# Altium integrated library IR Discrete SCR.IntLib: 273 symbols (part 2 of 3)
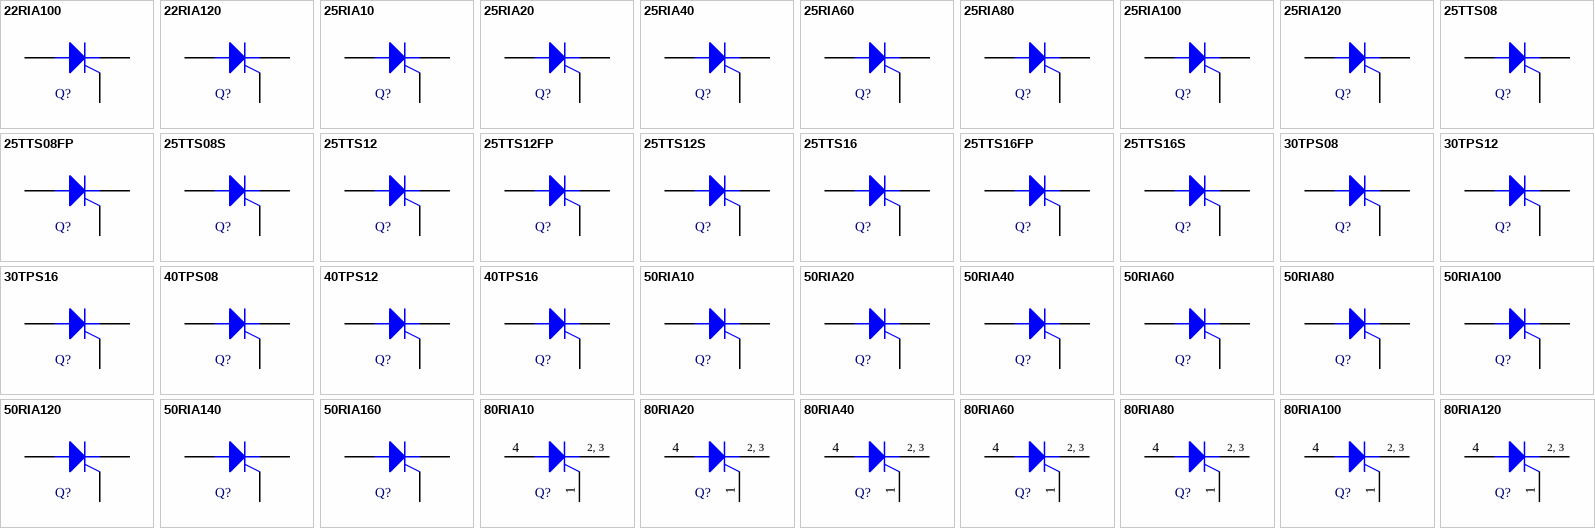
[diagram p7: symbols 22RIA100 to 80RIA120]

## 25TTS12
designator Q?
Phase Control SCR; Published: 8-Jun-2000; LatestRevisionDate: 17-Jul-2002; LatestRevisionNote: Re-released for DXP Platform.; DatasheetVersion: Dec-1998; PackageVersion: Mar-1999; PackageReference: TO-220AC_FP; Publisher: Altium Limited; PackageDescription: TO, Thru-Hole, Vertical, Heatsink Mounted; 3 In-Line Leads; Pitch 2.54 mm; ComponentLink1Description: Manufacturer Link; ComponentLink1URL: http://www.irf.com/; ComponentLink2Description: Datasheet; ComponentLink2URL: http://www.irf.com/product-info/datasheets/data/25tts.pdf
footprint TO-220AC_FP (TO, Thru-Hole, Vertical, Heatsink Mounted; 3 In-Line Leads; Pitch 2.54 mm)
pins: 1 K, 2 A, 3 G

## 25TTS12FP
designator Q?
Phase Control SCR TO-220 Fullpak; Published: 8-Jun-2000; LatestRevisionDate: 17-Jul-2002; LatestRevisionNote: Re-released for DXP Platform.; DatasheetVersion: Mar-1999; PackageVersion: Mar-1999; PackageReference: TO-220AC_FP; Publisher: Altium Limited; PackageDescription: TO, Thru-Hole, Vertical, Heatsink Mounted; 3 In-Line Leads; Pitch 2.54 mm; ComponentLink1Description: Manufacturer Link; ComponentLink1URL: http://www.irf.com/; ComponentLink2Description: Datasheet; ComponentLink2URL: http://www.irf.com/product-info/datasheets/data/25tts-fp.pdf
footprint TO-220AC_FP (TO, Thru-Hole, Vertical, Heatsink Mounted; 3 In-Line Leads; Pitch 2.54 mm)
pins: 1 K, 2 A, 3 G

## 25TTS12S
designator Q?
Surface Mountable Phase Control SCR; Note: Terminal 2 (anode) is the BASE; Published: 8-Jun-2000; LatestRevisionDate: 17-Jul-2002; LatestRevisionNote: Re-released for DXP Platform.; DatasheetVersion: Dec-1998; PackageReference: D2PAK; Publisher: Altium Limited; PackageDescription: D2-PAK/TO-263-AB; 3 Leads (1 Cropped); Body 15.5 (inc. leads) x 10.5 mm (LxW max); ComponentLink1Description: Manufacturer Link; ComponentLink1URL: http://www.irf.com/; ComponentLink2Description: Datasheet; ComponentLink2URL: http://www.irf.com/product-info/datasheets/data/25tts-s.pdf
footprint D2PAK (D2-PAK/TO-263-AB; 3 Leads (1 Cropped); Body 15.5 (inc. leads) x 10.5 mm (LxW max))
pins: 1 K, 2 A, 3 G

## 25TTS16
designator Q?
Phase Control SCR; Published: 8-Jun-2000; LatestRevisionDate: 17-Jul-2002; LatestRevisionNote: Re-released for DXP Platform.; DatasheetVersion: Dec-1998; PackageVersion: Mar-1999; PackageReference: TO-220AC_FP; Publisher: Altium Limited; PackageDescription: TO, Thru-Hole, Vertical, Heatsink Mounted; 3 In-Line Leads; Pitch 2.54 mm; ComponentLink1Description: Manufacturer Link; ComponentLink1URL: http://www.irf.com/; ComponentLink2Description: Datasheet; ComponentLink2URL: http://www.irf.com/product-info/datasheets/data/25tts.pdf
footprint TO-220AC_FP (TO, Thru-Hole, Vertical, Heatsink Mounted; 3 In-Line Leads; Pitch 2.54 mm)
pins: 1 K, 2 A, 3 G

## 25TTS16FP
designator Q?
Phase Control SCR TO-220 Fullpak; Published: 8-Jun-2000; LatestRevisionDate: 17-Jul-2002; LatestRevisionNote: Re-released for DXP Platform.; DatasheetVersion: Mar-1999; PackageVersion: Mar-1999; PackageReference: TO-220AC_FP; Publisher: Altium Limited; PackageDescription: TO, Thru-Hole, Vertical, Heatsink Mounted; 3 In-Line Leads; Pitch 2.54 mm; ComponentLink1Description: Manufacturer Link; ComponentLink1URL: http://www.irf.com/; ComponentLink2Description: Datasheet; ComponentLink2URL: http://www.irf.com/product-info/datasheets/data/25tts-fp.pdf
footprint TO-220AC_FP (TO, Thru-Hole, Vertical, Heatsink Mounted; 3 In-Line Leads; Pitch 2.54 mm)
pins: 1 K, 2 A, 3 G

## 25TTS16S
designator Q?
Surface Mountable Phase Control SCR; Note: Terminal 2 (anode) is the BASE; Published: 8-Jun-2000; LatestRevisionDate: 17-Jul-2002; LatestRevisionNote: Re-released for DXP Platform.; DatasheetVersion: Dec-1998; PackageReference: D2PAK; Publisher: Altium Limited; PackageDescription: D2-PAK/TO-263-AB; 3 Leads (1 Cropped); Body 15.5 (inc. leads) x 10.5 mm (LxW max); ComponentLink1Description: Manufacturer Link; ComponentLink1URL: http://www.irf.com/; ComponentLink2Description: Datasheet; ComponentLink2URL: http://www.irf.com/product-info/datasheets/data/25tts-s.pdf
footprint D2PAK (D2-PAK/TO-263-AB; 3 Leads (1 Cropped); Body 15.5 (inc. leads) x 10.5 mm (LxW max))
pins: 1 K, 2 A, 3 G

## 30TPS08
designator Q?
Phase Control SCR; Published: 8-Jun-2000; LatestRevisionDate: 17-Jul-2002; LatestRevisionNote: Re-released for DXP Platform.; DatasheetVersion: Apr-1997; PackageVersion: Aug-1997; PackageReference: TO-247AC; Publisher: Altium Limited; PackageDescription: SIP with Mounting Hole; 3 Leads; Body 20 x 15.6 x 5 mm (typ); Pitch 5.45 mm; Code_JEDEC: TO-247-AC; ComponentLink1Description: Manufacturer Link; ComponentLink1URL: http://www.irf.com/; ComponentLink2Description: Datasheet; ComponentLink2URL: http://www.irf.com/product-info/datasheets/data/30tps16.pdf
footprint TO-247AC (SIP with Mounting Hole; 3 Leads; Body 20 x 15.6 x 5 mm (typ); Pitch 5.45 mm)
pins: 1 K, 2 A, 3 G

## 30TPS12
designator Q?
Phase Control SCR; Published: 8-Jun-2000; LatestRevisionDate: 17-Jul-2002; LatestRevisionNote: Re-released for DXP Platform.; DatasheetVersion: Apr-1997; PackageVersion: Aug-1997; PackageReference: TO-247AC; Publisher: Altium Limited; PackageDescription: SIP with Mounting Hole; 3 Leads; Body 20 x 15.6 x 5 mm (typ); Pitch 5.45 mm; Code_JEDEC: TO-247-AC; ComponentLink1Description: Manufacturer Link; ComponentLink1URL: http://www.irf.com/; ComponentLink2Description: Datasheet; ComponentLink2URL: http://www.irf.com/product-info/datasheets/data/30tps16.pdf
footprint TO-247AC (SIP with Mounting Hole; 3 Leads; Body 20 x 15.6 x 5 mm (typ); Pitch 5.45 mm)
pins: 1 K, 2 A, 3 G

## 30TPS16
designator Q?
Phase Control SCR; Published: 8-Jun-2000; LatestRevisionDate: 17-Jul-2002; LatestRevisionNote: Re-released for DXP Platform.; DatasheetVersion: Apr-1997; PackageVersion: Aug-1997; PackageReference: TO-247AC; Publisher: Altium Limited; PackageDescription: SIP with Mounting Hole; 3 Leads; Body 20 x 15.6 x 5 mm (typ); Pitch 5.45 mm; Code_JEDEC: TO-247-AC; ComponentLink1Description: Manufacturer Link; ComponentLink1URL: http://www.irf.com/; ComponentLink2Description: Datasheet; ComponentLink2URL: http://www.irf.com/product-info/datasheets/data/30tps16.pdf
footprint TO-247AC (SIP with Mounting Hole; 3 Leads; Body 20 x 15.6 x 5 mm (typ); Pitch 5.45 mm)
pins: 1 K, 2 A, 3 G

## 40TPS08
designator Q?
Phase Control SCR; Published: 8-Jun-2000; LatestRevisionDate: 17-Jul-2002; LatestRevisionNote: Re-released for DXP Platform.; DatasheetVersion: Aug-1998; PackageVersion: Aug-1997; PackageReference: TO-247AC; Publisher: Altium Limited; PackageDescription: SIP with Mounting Hole; 3 Leads; Body 20 x 15.6 x 5 mm (typ); Pitch 5.45 mm; Code_JEDEC: TO-247-AC; ComponentLink1Description: Manufacturer Link; ComponentLink1URL: http://www.irf.com/; ComponentLink2Description: Datasheet; ComponentLink2URL: http://www.irf.com/product-info/datasheets/data/40tps.pdf
footprint TO-247AC (SIP with Mounting Hole; 3 Leads; Body 20 x 15.6 x 5 mm (typ); Pitch 5.45 mm)
pins: 1 K, 2 A, 3 G

## 40TPS12
designator Q?
Phase Control SCR; Published: 8-Jun-2000; LatestRevisionDate: 17-Jul-2002; LatestRevisionNote: Re-released for DXP Platform.; DatasheetVersion: Aug-1998; PackageVersion: Aug-1997; PackageReference: TO-247AC; Publisher: Altium Limited; PackageDescription: SIP with Mounting Hole; 3 Leads; Body 20 x 15.6 x 5 mm (typ); Pitch 5.45 mm; Code_JEDEC: TO-247-AC; ComponentLink1Description: Manufacturer Link; ComponentLink1URL: http://www.irf.com/; ComponentLink2Description: Datasheet; ComponentLink2URL: http://www.irf.com/product-info/datasheets/data/40tps.pdf
footprint TO-247AC (SIP with Mounting Hole; 3 Leads; Body 20 x 15.6 x 5 mm (typ); Pitch 5.45 mm)
pins: 1 K, 2 A, 3 G

## 40TPS16
designator Q?
Phase Control SCR; Published: 8-Jun-2000; LatestRevisionDate: 17-Jul-2002; LatestRevisionNote: Re-released for DXP Platform.; DatasheetVersion: Aug-1998; PackageVersion: Aug-1997; PackageReference: TO-247AC; Publisher: Altium Limited; PackageDescription: SIP with Mounting Hole; 3 Leads; Body 20 x 15.6 x 5 mm (typ); Pitch 5.45 mm; Code_JEDEC: TO-247-AC; ComponentLink1Description: Manufacturer Link; ComponentLink1URL: http://www.irf.com/; ComponentLink2Description: Datasheet; ComponentLink2URL: http://www.irf.com/product-info/datasheets/data/40tps.pdf
footprint TO-247AC (SIP with Mounting Hole; 3 Leads; Body 20 x 15.6 x 5 mm (typ); Pitch 5.45 mm)
pins: 1 K, 2 A, 3 G

## 50RIA10
designator Q?
Medium Power Thyristor; Note: No PCB Footprint Available; Published: 8-Jun-2000; LatestRevisionDate: 17-Jul-2002; LatestRevisionNote: Re-released for DXP Platform.; DatasheetVersion: I2401; PackageReference: TO-208AC; Publisher: Altium Limited; ComponentLink1Description: Manufacturer Link; ComponentLink1URL: http://www.irf.com/; ComponentLink2Description: Datasheet; ComponentLink2URL: http://www.irf.com/product-info/datasheets/data/50ria.pdf
simulation model 50RIA10 (SUBCKT)
pins: 1 G, 2 K, 3 A

## 50RIA20
designator Q?
Medium Power Thyristor; Note: No PCB Footprint Available; Published: 8-Jun-2000; LatestRevisionDate: 17-Jul-2002; LatestRevisionNote: Re-released for DXP Platform.; DatasheetVersion: I2401; PackageReference: TO-208AC; Publisher: Altium Limited; ComponentLink1Description: Manufacturer Link; ComponentLink1URL: http://www.irf.com/; ComponentLink2Description: Datasheet; ComponentLink2URL: http://www.irf.com/product-info/datasheets/data/50ria.pdf
simulation model 50RIA20 (SUBCKT)
pins: 1 G, 2 K, 3 A

## 50RIA40
designator Q?
Medium Power Thyristor; Note: No PCB Footprint Available; Published: 8-Jun-2000; LatestRevisionDate: 17-Jul-2002; LatestRevisionNote: Re-released for DXP Platform.; DatasheetVersion: I2401; PackageReference: TO-208AC; Publisher: Altium Limited; ComponentLink1Description: Manufacturer Link; ComponentLink1URL: http://www.irf.com/; ComponentLink2Description: Datasheet; ComponentLink2URL: http://www.irf.com/product-info/datasheets/data/50ria.pdf
simulation model 50RIA40 (SUBCKT)
pins: 1 G, 2 K, 3 A

## 50RIA60
designator Q?
Medium Power Thyristor; Note: No PCB Footprint Available; Published: 8-Jun-2000; LatestRevisionDate: 17-Jul-2002; LatestRevisionNote: Re-released for DXP Platform.; DatasheetVersion: I2401; PackageReference: TO-208AC; Publisher: Altium Limited; ComponentLink1Description: Manufacturer Link; ComponentLink1URL: http://www.irf.com/; ComponentLink2Description: Datasheet; ComponentLink2URL: http://www.irf.com/product-info/datasheets/data/50ria.pdf
simulation model 50RIA60 (SUBCKT)
pins: 1 G, 2 K, 3 A

## 50RIA80
designator Q?
Medium Power Thyristor; Note: No PCB Footprint Available; Published: 8-Jun-2000; LatestRevisionDate: 17-Jul-2002; LatestRevisionNote: Re-released for DXP Platform.; DatasheetVersion: I2401; PackageReference: TO-208AC; Publisher: Altium Limited; ComponentLink1Description: Manufacturer Link; ComponentLink1URL: http://www.irf.com/; ComponentLink2Description: Datasheet; ComponentLink2URL: http://www.irf.com/product-info/datasheets/data/50ria.pdf
simulation model 50RIA80 (SUBCKT)
pins: 1 G, 2 K, 3 A

## 50RIA100
designator Q?
Medium Power Thyristor; Note: No PCB Footprint Available; Published: 8-Jun-2000; LatestRevisionDate: 17-Jul-2002; LatestRevisionNote: Re-released for DXP Platform.; DatasheetVersion: I2401; PackageReference: TO-208AC; Publisher: Altium Limited; ComponentLink1Description: Manufacturer Link; ComponentLink1URL: http://www.irf.com/; ComponentLink2Description: Datasheet; ComponentLink2URL: http://www.irf.com/product-info/datasheets/data/50ria.pdf
simulation model 50RIA100 (SUBCKT)
pins: 1 G, 2 K, 3 A

## 50RIA120
designator Q?
Medium Power Thyristor; Note: No PCB Footprint Available; Published: 8-Jun-2000; LatestRevisionDate: 17-Jul-2002; LatestRevisionNote: Re-released for DXP Platform.; DatasheetVersion: I2401; PackageReference: TO-208AC; Publisher: Altium Limited; ComponentLink1Description: Manufacturer Link; ComponentLink1URL: http://www.irf.com/; ComponentLink2Description: Datasheet; ComponentLink2URL: http://www.irf.com/product-info/datasheets/data/50ria.pdf
simulation model 50RIA120 (SUBCKT)
pins: 1 G, 2 K, 3 A

## 50RIA140
designator Q?
Medium Power Thyristor; Note: No PCB Footprint Available; Published: 8-Jun-2000; LatestRevisionDate: 17-Jul-2002; LatestRevisionNote: Re-released for DXP Platform.; DatasheetVersion: I2401; PackageReference: TO-208AC; Publisher: Altium Limited; ComponentLink1Description: Manufacturer Link; ComponentLink1URL: http://www.irf.com/; ComponentLink2Description: Datasheet; ComponentLink2URL: http://www.irf.com/product-info/datasheets/data/50ria.pdf
simulation model 50RIA140 (SUBCKT)
pins: 1 G, 2 K, 3 A

## 50RIA160
designator Q?
Medium Power Thyristor; Note: No PCB Footprint Available; Published: 8-Jun-2000; LatestRevisionDate: 17-Jul-2002; LatestRevisionNote: Re-released for DXP Platform.; DatasheetVersion: I2401; PackageReference: TO-208AC; Publisher: Altium Limited; ComponentLink1Description: Manufacturer Link; ComponentLink1URL: http://www.irf.com/; ComponentLink2Description: Datasheet; ComponentLink2URL: http://www.irf.com/product-info/datasheets/data/50ria.pdf
simulation model 50RIA160 (SUBCKT)
pins: 1 G, 2 K, 3 A

## 80RIA10
designator Q?
Phase Control Thyristor; Note: No PCB Footprint Available; Published: 8-Jun-2000; LatestRevisionDate: 17-Jul-2002; LatestRevisionNote: Re-released for DXP Platform.; DatasheetVersion: Dec-1989; PackageReference: TO-209AC; Publisher: Altium Limited; ComponentLink1Description: Manufacturer Link; ComponentLink1URL: http://www.irf.com/
simulation model 80RIA10 (SUBCKT)
pins: 1 G, 2 K, 3 K, 4 A
text: 2, 3

## 80RIA20
designator Q?
Phase Control Thyristor; Note: No PCB Footprint Available; Published: 8-Jun-2000; LatestRevisionDate: 17-Jul-2002; LatestRevisionNote: Re-released for DXP Platform.; DatasheetVersion: Dec-1989; PackageReference: TO-209AC; Publisher: Altium Limited; ComponentLink1Description: Manufacturer Link; ComponentLink1URL: http://www.irf.com/
simulation model 80RIA20 (SUBCKT)
pins: 1 G, 2 K, 3 K, 4 A
text: 2, 3

## 80RIA40
designator Q?
Phase Control Thyristor; Note: No PCB Footprint Available; Published: 8-Jun-2000; LatestRevisionDate: 17-Jul-2002; LatestRevisionNote: Re-released for DXP Platform.; PackageReference: TO-209AC; Publisher: Altium Limited; ComponentLink1Description: Manufacturer Link; ComponentLink1URL: http://www.irf.com/; ComponentLink2Description: Datasheet; ComponentLink2URL: http://www.irf.com/product-info/datasheets/data/80ria.pdf
simulation model 80RIA40 (SUBCKT)
pins: 1 G, 2 K, 3 K, 4 A
text: 2, 3

## 80RIA60
designator Q?
Phase Control Thyristor; Note: No PCB Footprint Available; Published: 8-Jun-2000; LatestRevisionDate: 17-Jul-2002; LatestRevisionNote: Re-released for DXP Platform.; DatasheetVersion: Dec-1989; PackageReference: TO-209AC; Publisher: Altium Limited; ComponentLink1Description: Manufacturer Link; ComponentLink1URL: http://www.irf.com/
simulation model 80RIA60 (SUBCKT)
pins: 1 G, 2 K, 3 K, 4 A
text: 2, 3

## 80RIA80
designator Q?
Phase Control Thyristor; Note: No PCB Footprint Available; Published: 8-Jun-2000; LatestRevisionDate: 17-Jul-2002; LatestRevisionNote: Re-released for DXP Platform.; PackageReference: TO-209AC; Publisher: Altium Limited; ComponentLink1Description: Manufacturer Link; ComponentLink1URL: http://www.irf.com/; ComponentLink2Description: Datasheet; ComponentLink2URL: http://www.irf.com/product-info/datasheets/data/80ria.pdf
simulation model 80RIA80 (SUBCKT)
pins: 1 G, 2 K, 3 K, 4 A
text: 2, 3

## 80RIA100
designator Q?
Phase Control Thyristor; Note: No PCB Footprint Available; Published: 8-Jun-2000; LatestRevisionDate: 17-Jul-2002; LatestRevisionNote: Re-released for DXP Platform.; DatasheetVersion: Dec-1989; PackageReference: TO-209AC; Publisher: Altium Limited; ComponentLink1Description: Manufacturer Link; ComponentLink1URL: http://www.irf.com/
simulation model 80RIA100 (SUBCKT)
pins: 1 G, 2 K, 3 K, 4 A
text: 2, 3

## 80RIA120
designator Q?
Phase Control Thyristor; Note: No PCB Footprint Available; Published: 8-Jun-2000; LatestRevisionDate: 17-Jul-2002; LatestRevisionNote: Re-released for DXP Platform.; PackageReference: TO-209AC; Publisher: Altium Limited; ComponentLink1Description: Manufacturer Link; ComponentLink1URL: http://www.irf.com/; ComponentLink2Description: Datasheet; ComponentLink2URL: http://www.irf.com/product-info/datasheets/data/80ria.pdf
simulation model 80RIA120 (SUBCKT)
pins: 1 G, 2 K, 3 K, 4 A
text: 2, 3

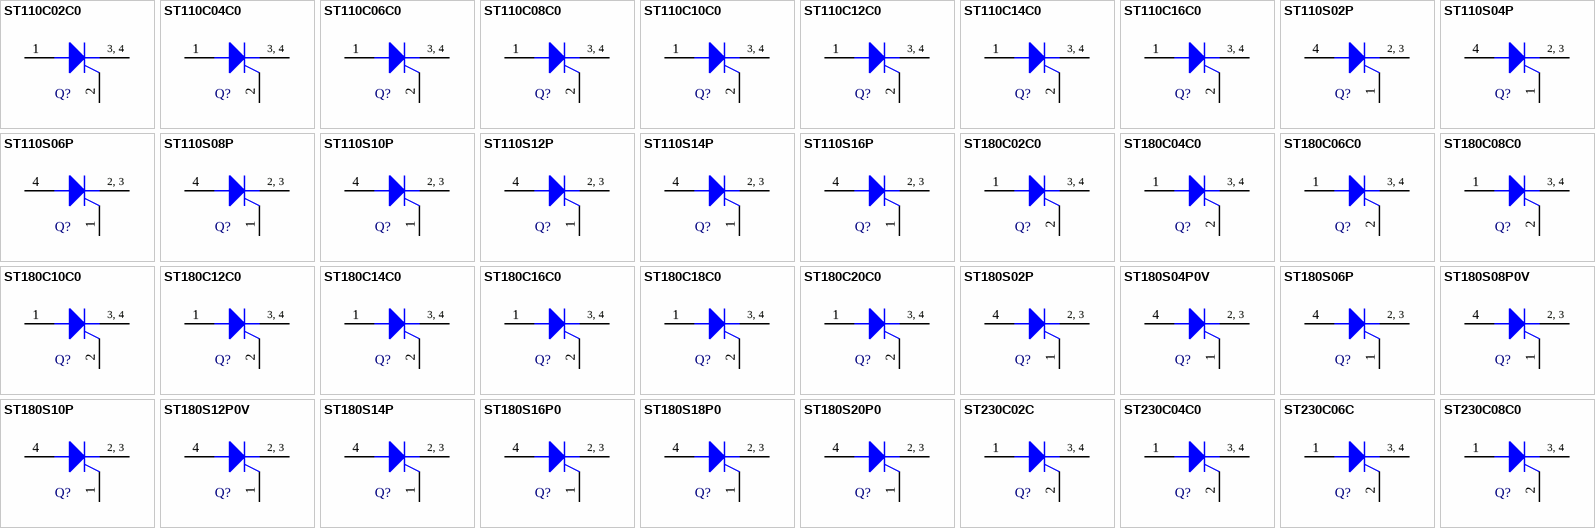
[diagram p3: symbols ST110C02C0 to ST230C08C0]

## ST110C02C0
designator Q?
Phase Control Thyristor; Note: No PCB Footprint Available; Published: 8-Jun-2000; LatestRevisionDate: 17-Jul-2002; LatestRevisionNote: Re-released for DXP Platform.; DatasheetVersion: Dec-1989; PackageReference: TO-200AB; Publisher: Altium Limited; ComponentLink1Description: Manufacturer Link; ComponentLink1URL: http://www.irf.com/
simulation model ST110C02C0 (SUBCKT)
pins: 1 A, 2 G, 3 K, 4 K
text: 3, 4

## ST110C04C0
designator Q?
Phase Control Thyristor; Note: No PCB Footprint Available; Published: 8-Jun-2000; LatestRevisionDate: 17-Jul-2002; LatestRevisionNote: Re-released for DXP Platform.; DatasheetVersion: Dec-1989; PackageReference: TO-200AB; Publisher: Altium Limited; ComponentLink1Description: Manufacturer Link; ComponentLink1URL: http://www.irf.com/
simulation model ST110C04C0 (SUBCKT)
pins: 1 A, 2 G, 3 K, 4 K
text: 3, 4

## ST110C06C0
designator Q?
Phase Control Thyristor; Note: No PCB Footprint Available; Published: 8-Jun-2000; LatestRevisionDate: 17-Jul-2002; LatestRevisionNote: Re-released for DXP Platform.; DatasheetVersion: Dec-1989; PackageReference: TO-200AB; Publisher: Altium Limited; ComponentLink1Description: Manufacturer Link; ComponentLink1URL: http://www.irf.com/
simulation model ST110C06C0 (SUBCKT)
pins: 1 A, 2 G, 3 K, 4 K
text: 3, 4

## ST110C08C0
designator Q?
Phase Control Thyristor; Note: No PCB Footprint Available; Published: 8-Jun-2000; LatestRevisionDate: 17-Jul-2002; LatestRevisionNote: Re-released for DXP Platform.; DatasheetVersion: Dec-1989; PackageReference: TO-200AB; Publisher: Altium Limited; ComponentLink1Description: Manufacturer Link; ComponentLink1URL: http://www.irf.com/
simulation model ST110C08C0 (SUBCKT)
pins: 1 A, 2 G, 3 K, 4 K
text: 3, 4

## ST110C10C0
designator Q?
Phase Control Thyristor; Note: No PCB Footprint Available; Published: 8-Jun-2000; LatestRevisionDate: 17-Jul-2002; LatestRevisionNote: Re-released for DXP Platform.; DatasheetVersion: Dec-1989; PackageReference: TO-200AB; Publisher: Altium Limited; ComponentLink1Description: Manufacturer Link; ComponentLink1URL: http://www.irf.com/
simulation model ST110C10C0 (SUBCKT)
pins: 1 A, 2 G, 3 K, 4 K
text: 3, 4

## ST110C12C0
designator Q?
Phase Control Thyristor; Note: No PCB Footprint Available; Published: 8-Jun-2000; LatestRevisionDate: 17-Jul-2002; LatestRevisionNote: Re-released for DXP Platform.; DatasheetVersion: Dec-1989; PackageReference: TO-200AB; Publisher: Altium Limited; ComponentLink1Description: Manufacturer Link; ComponentLink1URL: http://www.irf.com/
simulation model ST110C12C0 (SUBCKT)
pins: 1 A, 2 G, 3 K, 4 K
text: 3, 4

## ST110C14C0
designator Q?
Phase Control Thyristor; Note: No PCB Footprint Available; Published: 8-Jun-2000; LatestRevisionDate: 17-Jul-2002; LatestRevisionNote: Re-released for DXP Platform.; DatasheetVersion: Dec-1989; PackageReference: TO-200AB; Publisher: Altium Limited; ComponentLink1Description: Manufacturer Link; ComponentLink1URL: http://www.irf.com/
simulation model ST110C14C0 (SUBCKT)
pins: 1 A, 2 G, 3 K, 4 K
text: 3, 4

## ST110C16C0
designator Q?
Phase Control Thyristor; Note: No PCB Footprint Available; Published: 8-Jun-2000; LatestRevisionDate: 17-Jul-2002; LatestRevisionNote: Re-released for DXP Platform.; DatasheetVersion: Dec-1989; PackageReference: TO-200AB; Publisher: Altium Limited; ComponentLink1Description: Manufacturer Link; ComponentLink1URL: http://www.irf.com/
simulation model ST110C16C0 (SUBCKT)
pins: 1 A, 2 G, 3 K, 4 K
text: 3, 4

## ST110S02P
designator Q?
Phase Control Thyristor; Note: No PCB Footprint Available; Published: 8-Jun-2000; LatestRevisionDate: 17-Jul-2002; LatestRevisionNote: Re-released for DXP Platform.; DatasheetVersion: Dec-1989; PackageReference: TO-209AC; Publisher: Altium Limited; ComponentLink1Description: Manufacturer Link; ComponentLink1URL: http://www.irf.com/
simulation model ST110S02P (SUBCKT)
pins: 1 G, 2 K, 3 K, 4 A
text: 2, 3

## ST110S04P
designator Q?
Phase Control Thyristor; Note: No PCB Footprint Available; Published: 8-Jun-2000; LatestRevisionDate: 17-Jul-2002; LatestRevisionNote: Re-released for DXP Platform.; DatasheetVersion: Jan-1994; PackageReference: TO-209AC; Publisher: Altium Limited; ComponentLink1Description: Manufacturer Link; ComponentLink1URL: http://www.irf.com/; ComponentLink2Description: Datasheet; ComponentLink2URL: http://www.irf.com/product-info/datasheets/data/st110s.pdf
simulation model ST110S04P (SUBCKT)
pins: 1 G, 2 K, 3 K, 4 A
text: 2, 3

## ST110S06P
designator Q?
Phase Control Thyristor; Note: No PCB Footprint Available; Published: 8-Jun-2000; LatestRevisionDate: 17-Jul-2002; LatestRevisionNote: Re-released for DXP Platform.; DatasheetVersion: Dec-1989; PackageReference: TO-209AC; Publisher: Altium Limited; ComponentLink1Description: Manufacturer Link; ComponentLink1URL: http://www.irf.com/
simulation model ST110S06P (SUBCKT)
pins: 1 G, 2 K, 3 K, 4 A
text: 2, 3

## ST110S08P
designator Q?
Phase Control Thyristor; Note: No PCB Footprint Available; Published: 8-Jun-2000; LatestRevisionDate: 17-Jul-2002; LatestRevisionNote: Re-released for DXP Platform.; DatasheetVersion: Jan-1994; PackageReference: TO-209AC; Publisher: Altium Limited; ComponentLink1Description: Manufacturer Link; ComponentLink1URL: http://www.irf.com/; ComponentLink2Description: Datasheet; ComponentLink2URL: http://www.irf.com/product-info/datasheets/data/st110s.pdf
simulation model ST110S08P (SUBCKT)
pins: 1 G, 2 K, 3 K, 4 A
text: 2, 3

## ST110S10P
designator Q?
Phase Control Thyristor; Note: No PCB Footprint Available; Published: 8-Jun-2000; LatestRevisionDate: 17-Jul-2002; LatestRevisionNote: Re-released for DXP Platform.; DatasheetVersion: Dec-1989; PackageReference: TO-209AC; Publisher: Altium Limited; ComponentLink1Description: Manufacturer Link; ComponentLink1URL: http://www.irf.com/
simulation model ST110S10P0V (SUBCKT)
pins: 1 G, 2 K, 3 K, 4 A
text: 2, 3

## ST110S12P
designator Q?
Phase Control Thyristor; Note: No PCB Footprint Available; Published: 8-Jun-2000; LatestRevisionDate: 17-Jul-2002; LatestRevisionNote: Re-released for DXP Platform.; DatasheetVersion: Jan-1994; PackageReference: TO-209AC; Publisher: Altium Limited; ComponentLink1Description: Manufacturer Link; ComponentLink1URL: http://www.irf.com/; ComponentLink2Description: Datasheet; ComponentLink2URL: http://www.irf.com/product-info/datasheets/data/st110s.pdf
simulation model ST110S12P (SUBCKT)
pins: 1 G, 2 K, 3 K, 4 A
text: 2, 3

## ST110S14P
designator Q?
Phase Control Thyristor; Note: No PCB Footprint Available; Published: 8-Jun-2000; LatestRevisionDate: 17-Jul-2002; LatestRevisionNote: Re-released for DXP Platform.; DatasheetVersion: Jan-1994; PackageReference: TO-209AC; Publisher: Altium Limited; ComponentLink1Description: Manufacturer Link; ComponentLink1URL: http://www.irf.com/; ComponentLink2Description: Datasheet; ComponentLink2URL: http://www.irf.com/product-info/datasheets/data/st110s.pdf
simulation model ST110S14P (SUBCKT)
pins: 1 G, 2 K, 3 K, 4 A
text: 2, 3

## ST110S16P
designator Q?
Phase Control Thyristor; Note: No PCB Footprint Available; Published: 8-Jun-2000; LatestRevisionDate: 17-Jul-2002; LatestRevisionNote: Re-released for DXP Platform.; DatasheetVersion: Jan-1994; PackageReference: TO-209AC; Publisher: Altium Limited; ComponentLink1Description: Manufacturer Link; ComponentLink1URL: http://www.irf.com/; ComponentLink2Description: Datasheet; ComponentLink2URL: http://www.irf.com/product-info/datasheets/data/st110s.pdf
simulation model ST110S16P (SUBCKT)
pins: 1 G, 2 K, 3 K, 4 A
text: 2, 3

## ST180C02C0
designator Q?
Phase Control Thyristor; Note: No PCB Footprint Available; Published: 8-Jun-2000; LatestRevisionDate: 17-Jul-2002; LatestRevisionNote: Re-released for DXP Platform.; DatasheetVersion: Dec-1989; PackageReference: TO-200AB; Publisher: Altium Limited; ComponentLink1Description: Manufacturer Link; ComponentLink1URL: http://www.irf.com/
simulation model ST180C02C0 (SUBCKT)
pins: 1 A, 2 G, 3 K, 4 K
text: 3, 4

## ST180C04C0
designator Q?
Phase Control Thyristor; Note: No PCB Footprint Available; Published: 8-Jun-2000; LatestRevisionDate: 17-Jul-2002; LatestRevisionNote: Re-released for DXP Platform.; DatasheetVersion: Jan-1994; PackageReference: TO-200AB; Publisher: Altium Limited; ComponentLink1Description: Manufacturer Link; ComponentLink1URL: http://www.irf.com/; ComponentLink2Description: Datasheet; ComponentLink2URL: http://www.irf.com/product-info/datasheets/data/st180c-c.pdf
simulation model ST180C04C0 (SUBCKT)
pins: 1 A, 2 G, 3 K, 4 K
text: 3, 4

## ST180C06C0
designator Q?
Phase Control Thyristor; Note: No PCB Footprint Available; Published: 8-Jun-2000; LatestRevisionDate: 17-Jul-2002; LatestRevisionNote: Re-released for DXP Platform.; DatasheetVersion: Dec-1989; PackageReference: TO-200AB; Publisher: Altium Limited; ComponentLink1Description: Manufacturer Link; ComponentLink1URL: http://www.irf.com/
simulation model ST180C06C0 (SUBCKT)
pins: 1 A, 2 G, 3 K, 4 K
text: 3, 4

## ST180C08C0
designator Q?
Phase Control Thyristor; Note: No PCB Footprint Available; Published: 8-Jun-2000; LatestRevisionDate: 17-Jul-2002; LatestRevisionNote: Re-released for DXP Platform.; DatasheetVersion: Jan-1994; PackageReference: TO-200AB; Publisher: Altium Limited; ComponentLink1Description: Manufacturer Link; ComponentLink1URL: http://www.irf.com/; ComponentLink2Description: Datasheet; ComponentLink2URL: http://www.irf.com/product-info/datasheets/data/st180c-c.pdf
simulation model ST180C08C0 (SUBCKT)
pins: 1 A, 2 G, 3 K, 4 K
text: 3, 4

## ST180C10C0
designator Q?
Phase Control Thyristor; Note: No PCB Footprint Available; Published: 8-Jun-2000; LatestRevisionDate: 17-Jul-2002; LatestRevisionNote: Re-released for DXP Platform.; DatasheetVersion: Dec-1989; PackageReference: TO-200AB; Publisher: Altium Limited; ComponentLink1Description: Manufacturer Link; ComponentLink1URL: http://www.irf.com/
simulation model ST180C10C0 (SUBCKT)
pins: 1 A, 2 G, 3 K, 4 K
text: 3, 4

## ST180C12C0
designator Q?
Phase Control Thyristor; Note: No PCB Footprint Available; Published: 8-Jun-2000; LatestRevisionDate: 17-Jul-2002; LatestRevisionNote: Re-released for DXP Platform.; DatasheetVersion: Jan-1994; PackageReference: TO-200AB; Publisher: Altium Limited; ComponentLink1Description: Manufacturer Link; ComponentLink1URL: http://www.irf.com/; ComponentLink2Description: Datasheet; ComponentLink2URL: http://www.irf.com/product-info/datasheets/data/st180c-c.pdf
simulation model ST180C12C0 (SUBCKT)
pins: 1 A, 2 G, 3 K, 4 K
text: 3, 4

## ST180C14C0
designator Q?
Phase Control Thyristor; Note: No PCB Footprint Available; Published: 8-Jun-2000; LatestRevisionDate: 17-Jul-2002; LatestRevisionNote: Re-released for DXP Platform.; DatasheetVersion: Dec-1989; PackageReference: TO-200AB; Publisher: Altium Limited; ComponentLink1Description: Manufacturer Link; ComponentLink1URL: http://www.irf.com/
simulation model ST180C14C0 (SUBCKT)
pins: 1 A, 2 G, 3 K, 4 K
text: 3, 4

## ST180C16C0
designator Q?
Phase Control Thyristor; Note: No PCB Footprint Available; Published: 8-Jun-2000; LatestRevisionDate: 17-Jul-2002; LatestRevisionNote: Re-released for DXP Platform.; DatasheetVersion: Jan-1994; PackageReference: TO-200AB; Publisher: Altium Limited; ComponentLink1Description: Manufacturer Link; ComponentLink1URL: http://www.irf.com/; ComponentLink2Description: Datasheet; ComponentLink2URL: http://www.irf.com/product-info/datasheets/data/st180c-c.pdf
simulation model ST180C16C0 (SUBCKT)
pins: 1 A, 2 G, 3 K, 4 K
text: 3, 4

## ST180C18C0
designator Q?
Phase Control Thyristor; Note: No PCB Footprint Available; Published: 8-Jun-2000; LatestRevisionDate: 17-Jul-2002; LatestRevisionNote: Re-released for DXP Platform.; DatasheetVersion: Jan-1994; PackageReference: TO-200AB; Publisher: Altium Limited; ComponentLink1Description: Manufacturer Link; ComponentLink1URL: http://www.irf.com/; ComponentLink2Description: Datasheet; ComponentLink2URL: http://www.irf.com/product-info/datasheets/data/st180c-c.pdf
simulation model ST180C18C0 (SUBCKT)
pins: 1 A, 2 G, 3 K, 4 K
text: 3, 4

## ST180C20C0
designator Q?
Phase Control Thyristor; Note: No PCB Footprint Available; Published: 8-Jun-2000; LatestRevisionDate: 17-Jul-2002; LatestRevisionNote: Re-released for DXP Platform.; DatasheetVersion: Jan-1994; PackageReference: TO-200AB; Publisher: Altium Limited; ComponentLink1Description: Manufacturer Link; ComponentLink1URL: http://www.irf.com/; ComponentLink2Description: Datasheet; ComponentLink2URL: http://www.irf.com/product-info/datasheets/data/st180c-c.pdf
simulation model ST180C20C0 (SUBCKT)
pins: 1 A, 2 G, 3 K, 4 K
text: 3, 4

## ST180S02P
designator Q?
Phase Control Thyristor; Note: No PCB Footprint Available; Published: 8-Jun-2000; LatestRevisionDate: 17-Jul-2002; LatestRevisionNote: Re-released for DXP Platform.; DatasheetVersion: Dec-1989; PackageReference: TO-209AB; Publisher: Altium Limited; ComponentLink1Description: Manufacturer Link; ComponentLink1URL: http://www.irf.com/
simulation model ST180S02P (SUBCKT)
pins: 1 G, 2 K, 3 K, 4 A
text: 2, 3

## ST180S04P0V
designator Q?
Phase Control Thyristor; Note: No PCB Footprint Available; Published: 8-Jun-2000; LatestRevisionDate: 17-Jul-2002; LatestRevisionNote: Re-released for DXP Platform.; DatasheetVersion: Jan-1994; PackageReference: TO-209AB; Publisher: Altium Limited; ComponentLink1Description: Manufacturer Link; ComponentLink1URL: http://www.irf.com/; ComponentLink2Description: Datasheet; ComponentLink2URL: http://www.irf.com/product-info/datasheets/data/st180s.pdf
simulation model ST180S04P0V (SUBCKT)
pins: 1 G, 2 K, 3 K, 4 A
text: 2, 3

## ST180S06P
designator Q?
Phase Control Thyristor; Note: No PCB Footprint Available; Published: 8-Jun-2000; LatestRevisionDate: 17-Jul-2002; LatestRevisionNote: Re-released for DXP Platform.; DatasheetVersion: Dec-1989; PackageReference: TO-209AB; Publisher: Altium Limited; ComponentLink1Description: Manufacturer Link; ComponentLink1URL: http://www.irf.com/
simulation model ST180S06P (SUBCKT)
pins: 1 G, 2 K, 3 K, 4 A
text: 2, 3

## ST180S08P0V
designator Q?
Phase Control Thyristor; Note: No PCB Footprint Available; Published: 8-Jun-2000; LatestRevisionDate: 17-Jul-2002; LatestRevisionNote: Re-released for DXP Platform.; DatasheetVersion: Jan-1994; PackageReference: TO-209AB; Publisher: Altium Limited; ComponentLink1Description: Manufacturer Link; ComponentLink1URL: http://www.irf.com/; ComponentLink2Description: Datasheet; ComponentLink2URL: http://www.irf.com/product-info/datasheets/data/st180s.pdf
simulation model ST180S08P0V (SUBCKT)
pins: 1 G, 2 K, 3 K, 4 A
text: 2, 3

## ST180S10P
designator Q?
Phase Control Thyristor; Note: No PCB Footprint Available; Published: 8-Jun-2000; LatestRevisionDate: 17-Jul-2002; LatestRevisionNote: Re-released for DXP Platform.; DatasheetVersion: Dec-1989; PackageReference: TO-209AB; Publisher: Altium Limited; ComponentLink1Description: Manufacturer Link; ComponentLink1URL: http://www.irf.com/
simulation model ST180S10P (SUBCKT)
pins: 1 G, 2 K, 3 K, 4 A
text: 2, 3

## ST180S12P0V
designator Q?
Phase Control Thyristor; Note: No PCB Footprint Available; Published: 8-Jun-2000; LatestRevisionDate: 17-Jul-2002; LatestRevisionNote: Re-released for DXP Platform.; DatasheetVersion: Jan-1994; PackageReference: TO-209AB; Publisher: Altium Limited; ComponentLink1Description: Manufacturer Link; ComponentLink1URL: http://www.irf.com/; ComponentLink2Description: Datasheet; ComponentLink2URL: http://www.irf.com/product-info/datasheets/data/st180s.pdf
simulation model ST180S12P0V (SUBCKT)
pins: 1 G, 2 K, 3 K, 4 A
text: 2, 3

## ST180S14P
designator Q?
Phase Control Thyristor; Note: No PCB Footprint Available; Published: 8-Jun-2000; LatestRevisionDate: 17-Jul-2002; LatestRevisionNote: Re-released for DXP Platform.; DatasheetVersion: Dec-1989; PackageReference: TO-209AB; Publisher: Altium Limited; ComponentLink1Description: Manufacturer Link; ComponentLink1URL: http://www.irf.com/
simulation model ST180S14P (SUBCKT)
pins: 1 G, 2 K, 3 K, 4 A
text: 2, 3

## ST180S16P0
designator Q?
Phase Control Thyristor; Note: No PCB Footprint Available; Published: 8-Jun-2000; LatestRevisionDate: 17-Jul-2002; LatestRevisionNote: Re-released for DXP Platform.; DatasheetVersion: Jan-1994; PackageReference: TO-209AB; Publisher: Altium Limited; ComponentLink1Description: Manufacturer Link; ComponentLink1URL: http://www.irf.com/; ComponentLink2Description: Datasheet; ComponentLink2URL: http://www.irf.com/product-info/datasheets/data/st180s.pdf
simulation model ST180S16P0 (SUBCKT)
pins: 1 G, 2 K, 3 K, 4 A
text: 2, 3

## ST180S18P0
designator Q?
Phase Control Thyristor; Note: No PCB Footprint Available; Published: 8-Jun-2000; LatestRevisionDate: 17-Jul-2002; LatestRevisionNote: Re-released for DXP Platform.; DatasheetVersion: Jan-1994; PackageReference: TO-209AB; Publisher: Altium Limited; ComponentLink1Description: Manufacturer Link; ComponentLink1URL: http://www.irf.com/; ComponentLink2Description: Datasheet; ComponentLink2URL: http://www.irf.com/product-info/datasheets/data/st180s.pdf
simulation model ST180S18P0 (SUBCKT)
pins: 1 G, 2 K, 3 K, 4 A
text: 2, 3

## ST180S20P0
designator Q?
Phase Control Thyristor; Note: No PCB Footprint Available; Published: 8-Jun-2000; LatestRevisionDate: 17-Jul-2002; LatestRevisionNote: Re-released for DXP Platform.; DatasheetVersion: Jan-1994; PackageReference: TO-209AB; Publisher: Altium Limited; ComponentLink1Description: Manufacturer Link; ComponentLink1URL: http://www.irf.com/; ComponentLink2Description: Datasheet; ComponentLink2URL: http://www.irf.com/product-info/datasheets/data/st180s.pdf
simulation model ST180S20P0 (SUBCKT)
pins: 1 G, 2 K, 3 K, 4 A
text: 2, 3

## ST230C02C
designator Q?
Phase Control Thyristor; Note: No PCB Footprint Available; Published: 8-Jun-2000; LatestRevisionDate: 17-Jul-2002; LatestRevisionNote: Re-released for DXP Platform.; DatasheetVersion: Dec-1989; PackageReference: TO-200AB; Publisher: Altium Limited; ComponentLink1Description: Manufacturer Link; ComponentLink1URL: http://www.irf.com/
simulation model ST230C02C (SUBCKT)
pins: 1 A, 2 G, 3 K, 4 K
text: 3, 4

## ST230C04C0
designator Q?
Phase Control Thyristor; Note: No PCB Footprint Available; Published: 8-Jun-2000; LatestRevisionDate: 17-Jul-2002; LatestRevisionNote: Re-released for DXP Platform.; DatasheetVersion: Jan-1994; PackageReference: TO-200AB; Publisher: Altium Limited; ComponentLink1Description: Manufacturer Link; ComponentLink1URL: http://www.irf.com/; ComponentLink2Description: Datasheet; ComponentLink2URL: http://www.irf.com/product-info/datasheets/data/st230c-c.pdf
simulation model ST230C04C0 (SUBCKT)
pins: 1 A, 2 G, 3 K, 4 K
text: 3, 4

## ST230C06C
designator Q?
Phase Control Thyristor; Note: No PCB Footprint Available; Published: 8-Jun-2000; LatestRevisionDate: 17-Jul-2002; LatestRevisionNote: Re-released for DXP Platform.; DatasheetVersion: Dec-1989; PackageReference: TO-200AB; Publisher: Altium Limited; ComponentLink1Description: Manufacturer Link; ComponentLink1URL: http://www.irf.com/
simulation model ST230C06C (SUBCKT)
pins: 1 A, 2 G, 3 K, 4 K
text: 3, 4

## ST230C08C0
designator Q?
Phase Control Thyristor; Note: No PCB Footprint Available; Published: 8-Jun-2000; LatestRevisionDate: 17-Jul-2002; LatestRevisionNote: Re-released for DXP Platform.; DatasheetVersion: Jan-1994; PackageReference: TO-200AB; Publisher: Altium Limited; ComponentLink1Description: Manufacturer Link; ComponentLink1URL: http://www.irf.com/; ComponentLink2Description: Datasheet; ComponentLink2URL: http://www.irf.com/product-info/datasheets/data/st230c-c.pdf
simulation model ST230C08C0 (SUBCKT)
pins: 1 A, 2 G, 3 K, 4 K
text: 3, 4

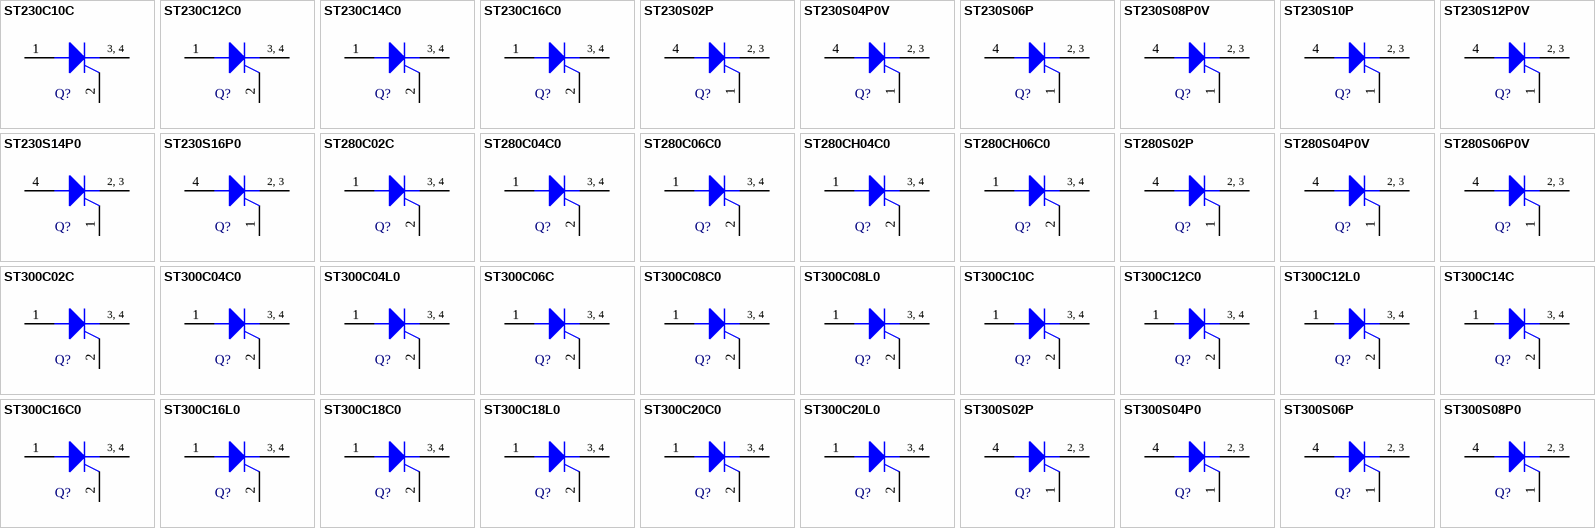
[diagram p4: symbols ST230C10C to ST300S08P0]

## ST230C10C
designator Q?
Phase Control Thyristor; Note: No PCB Footprint Available; Published: 8-Jun-2000; LatestRevisionDate: 17-Jul-2002; LatestRevisionNote: Re-released for DXP Platform.; DatasheetVersion: Dec-1989; PackageReference: TO-200AB; Publisher: Altium Limited; ComponentLink1Description: Manufacturer Link; ComponentLink1URL: http://www.irf.com/
simulation model ST230C10C (SUBCKT)
pins: 1 A, 2 G, 3 K, 4 K
text: 3, 4

## ST230C12C0
designator Q?
Phase Control Thyristor; Note: No PCB Footprint Available; Published: 8-Jun-2000; LatestRevisionDate: 17-Jul-2002; LatestRevisionNote: Re-released for DXP Platform.; DatasheetVersion: Jan-1994; PackageReference: TO-200AB; Publisher: Altium Limited; ComponentLink1Description: Manufacturer Link; ComponentLink1URL: http://www.irf.com/; ComponentLink2Description: Datasheet; ComponentLink2URL: http://www.irf.com/product-info/datasheets/data/st230c-c.pdf
simulation model ST230C12C0 (SUBCKT)
pins: 1 A, 2 G, 3 K, 4 K
text: 3, 4

## ST230C14C0
designator Q?
Phase Control Thyristor; Note: No PCB Footprint Available; Published: 8-Jun-2000; LatestRevisionDate: 17-Jul-2002; LatestRevisionNote: Re-released for DXP Platform.; DatasheetVersion: Jan-1994; PackageReference: TO-200AB; Publisher: Altium Limited; ComponentLink1Description: Manufacturer Link; ComponentLink1URL: http://www.irf.com/; ComponentLink2Description: Datasheet; ComponentLink2URL: http://www.irf.com/product-info/datasheets/data/st230c-c.pdf
simulation model ST230C14C0 (SUBCKT)
pins: 1 A, 2 G, 3 K, 4 K
text: 3, 4

## ST230C16C0
designator Q?
Phase Control Thyristor; Note: No PCB Footprint Available; Published: 8-Jun-2000; LatestRevisionDate: 17-Jul-2002; LatestRevisionNote: Re-released for DXP Platform.; DatasheetVersion: Jan-1994; PackageReference: TO-200AB; Publisher: Altium Limited; ComponentLink1Description: Manufacturer Link; ComponentLink1URL: http://www.irf.com/; ComponentLink2Description: Datasheet; ComponentLink2URL: http://www.irf.com/product-info/datasheets/data/st230c-c.pdf
simulation model ST230C16C0 (SUBCKT)
pins: 1 A, 2 G, 3 K, 4 K
text: 3, 4

## ST230S02P
designator Q?
Phase Control Thyristor; Note: No PCB Footprint Available; Published: 8-Jun-2000; LatestRevisionDate: 17-Jul-2002; LatestRevisionNote: Re-released for DXP Platform.; DatasheetVersion: Dec-1989; PackageReference: TO-209AB; Publisher: Altium Limited; ComponentLink1Description: Manufacturer Link; ComponentLink1URL: http://www.irf.com/
simulation model ST230S02P (SUBCKT)
pins: 1 G, 2 K, 3 K, 4 A
text: 2, 3

## ST230S04P0V
designator Q?
Phase Control Thyristor; Note: No PCB Footprint Available; Published: 8-Jun-2000; LatestRevisionDate: 17-Jul-2002; LatestRevisionNote: Re-released for DXP Platform.; DatasheetVersion: Jan-1994; PackageReference: TO-209AB; Publisher: Altium Limited; ComponentLink1Description: Manufacturer Link; ComponentLink1URL: http://www.irf.com/; ComponentLink2Description: Datasheet; ComponentLink2URL: http://www.irf.com/product-info/datasheets/data/st230s.pdf
simulation model ST230S04P0V (SUBCKT)
pins: 1 G, 2 K, 3 K, 4 A
text: 2, 3

## ST230S06P
designator Q?
Phase Control Thyristor; Note: No PCB Footprint Available; Published: 8-Jun-2000; LatestRevisionDate: 17-Jul-2002; LatestRevisionNote: Re-released for DXP Platform.; DatasheetVersion: Dec-1989; PackageReference: TO-209AB; Publisher: Altium Limited; ComponentLink1Description: Manufacturer Link; ComponentLink1URL: http://www.irf.com/
simulation model ST230S06P (SUBCKT)
pins: 1 G, 2 K, 3 K, 4 A
text: 2, 3

## ST230S08P0V
designator Q?
Phase Control Thyristor; Note: No PCB Footprint Available; Published: 8-Jun-2000; LatestRevisionDate: 17-Jul-2002; LatestRevisionNote: Re-released for DXP Platform.; DatasheetVersion: Jan-1994; PackageReference: TO-209AB; Publisher: Altium Limited; ComponentLink1Description: Manufacturer Link; ComponentLink1URL: http://www.irf.com/; ComponentLink2Description: Datasheet; ComponentLink2URL: http://www.irf.com/product-info/datasheets/data/st230s.pdf
simulation model ST230S08P0V (SUBCKT)
pins: 1 G, 2 K, 3 K, 4 A
text: 2, 3

## ST230S10P
designator Q?
Phase Control Thyristor; Note: No PCB Footprint Available; Published: 8-Jun-2000; LatestRevisionDate: 17-Jul-2002; LatestRevisionNote: Re-released for DXP Platform.; DatasheetVersion: Dec-1989; PackageReference: TO-209AB; Publisher: Altium Limited; ComponentLink1Description: Manufacturer Link; ComponentLink1URL: http://www.irf.com/
simulation model ST230S10P (SUBCKT)
pins: 1 G, 2 K, 3 K, 4 A
text: 2, 3

## ST230S12P0V
designator Q?
Phase Control Thyristor; Note: No PCB Footprint Available; Published: 8-Jun-2000; LatestRevisionDate: 17-Jul-2002; LatestRevisionNote: Re-released for DXP Platform.; DatasheetVersion: Jan-1994; PackageReference: TO-209AB; Publisher: Altium Limited; ComponentLink1Description: Manufacturer Link; ComponentLink1URL: http://www.irf.com/; ComponentLink2Description: Datasheet; ComponentLink2URL: http://www.irf.com/product-info/datasheets/data/st230s.pdf
simulation model ST230S12P0V (SUBCKT)
pins: 1 G, 2 K, 3 K, 4 A
text: 2, 3

## ST230S14P0
designator Q?
Phase Control Thyristor; Note: No PCB Footprint Available; Published: 8-Jun-2000; LatestRevisionDate: 17-Jul-2002; LatestRevisionNote: Re-released for DXP Platform.; DatasheetVersion: Jan-1994; PackageReference: TO-209AB; Publisher: Altium Limited; ComponentLink1Description: Manufacturer Link; ComponentLink1URL: http://www.irf.com/; ComponentLink2Description: Datasheet; ComponentLink2URL: http://www.irf.com/product-info/datasheets/data/st230s.pdf
simulation model ST230S14P0 (SUBCKT)
pins: 1 G, 2 K, 3 K, 4 A
text: 2, 3

## ST230S16P0
designator Q?
Phase Control Thyristor; Note: No PCB Footprint Available; Published: 8-Jun-2000; LatestRevisionDate: 17-Jul-2002; LatestRevisionNote: Re-released for DXP Platform.; DatasheetVersion: Jan-1994; PackageReference: TO-209AB; Publisher: Altium Limited; ComponentLink1Description: Manufacturer Link; ComponentLink1URL: http://www.irf.com/; ComponentLink2Description: Datasheet; ComponentLink2URL: http://www.irf.com/product-info/datasheets/data/st230s.pdf
simulation model ST230S16P0 (SUBCKT)
pins: 1 G, 2 K, 3 K, 4 A
text: 2, 3

## ST280C02C
designator Q?
Phase Control Thyristor; Note: No PCB Footprint Available; Published: 8-Jun-2000; LatestRevisionDate: 17-Jul-2002; LatestRevisionNote: Re-released for DXP Platform.; DatasheetVersion: Dec-1989; PackageReference: TO-200AB; Publisher: Altium Limited; ComponentLink1Description: Manufacturer Link; ComponentLink1URL: http://www.irf.com/
simulation model ST280C02C (SUBCKT)
pins: 1 A, 2 G, 3 K, 4 K
text: 3, 4

## ST280C04C0
designator Q?
Phase Control Thyristor; Note: No PCB Footprint Available; Published: 8-Jun-2000; LatestRevisionDate: 17-Jul-2002; LatestRevisionNote: Re-released for DXP Platform.; DatasheetVersion: Feb-1994; PackageReference: TO-200AB; Publisher: Altium Limited; ComponentLink1Description: Manufacturer Link; ComponentLink1URL: http://www.irf.com/; ComponentLink2Description: Datasheet; ComponentLink2URL: http://www.irf.com/product-info/datasheets/data/st280c-c.pdf
simulation model ST280C04C0 (SUBCKT)
pins: 1 A, 2 G, 3 K, 4 K
text: 3, 4

## ST280C06C0
designator Q?
Phase Control Thyristor; Note: No PCB Footprint Available; Published: 8-Jun-2000; LatestRevisionDate: 17-Jul-2002; LatestRevisionNote: Re-released for DXP Platform.; DatasheetVersion: Feb-1994; PackageReference: TO-200AB; Publisher: Altium Limited; ComponentLink1Description: Manufacturer Link; ComponentLink1URL: http://www.irf.com/; ComponentLink2Description: Datasheet; ComponentLink2URL: http://www.irf.com/product-info/datasheets/data/st280c-c.pdf
simulation model ST280C06C0 (SUBCKT)
pins: 1 A, 2 G, 3 K, 4 K
text: 3, 4

## ST280CH04C0
designator Q?
Phase Control Thyristor; Note: No PCB Footprint Available; Published: 8-Jun-2000; LatestRevisionDate: 17-Jul-2002; LatestRevisionNote: Re-released for DXP Platform.; DatasheetVersion: Feb-1994; PackageReference: TO-200AB; Publisher: Altium Limited; ComponentLink1Description: Manufacturer Link; ComponentLink1URL: http://www.irf.com/; ComponentLink2Description: Datasheet; ComponentLink2URL: http://www.irf.com/product-info/datasheets/data/st280ch-c.pdf
simulation model ST280CH04C0 (SUBCKT)
pins: 1 A, 2 G, 3 K, 4 K
text: 3, 4

## ST280CH06C0
designator Q?
Phase Control Thyristor; Note: No PCB Footprint Available; Published: 8-Jun-2000; LatestRevisionDate: 17-Jul-2002; LatestRevisionNote: Re-released for DXP Platform.; DatasheetVersion: Feb-1994; PackageReference: TO-200AB; Publisher: Altium Limited; ComponentLink1Description: Manufacturer Link; ComponentLink1URL: http://www.irf.com/; ComponentLink2Description: Datasheet; ComponentLink2URL: http://www.irf.com/product-info/datasheets/data/st280ch-c.pdf
simulation model ST280CH06C0 (SUBCKT)
pins: 1 A, 2 G, 3 K, 4 K
text: 3, 4

## ST280S02P
designator Q?
Phase Control Thyristor; Note: No PCB Footprint Available; Published: 8-Jun-2000; LatestRevisionDate: 17-Jul-2002; LatestRevisionNote: Re-released for DXP Platform.; DatasheetVersion: Dec-1989; PackageReference: TO-209AB; Publisher: Altium Limited; ComponentLink1Description: Manufacturer Link; ComponentLink1URL: http://www.irf.com/
simulation model ST280S02P (SUBCKT)
pins: 1 G, 2 K, 3 K, 4 A
text: 2, 3

## ST280S04P0V
designator Q?
Phase Control Thyristor; Note: No PCB Footprint Available; Published: 8-Jun-2000; LatestRevisionDate: 17-Jul-2002; LatestRevisionNote: Re-released for DXP Platform.; DatasheetVersion: Jan-1994; PackageReference: TO-209AB; Publisher: Altium Limited; ComponentLink1Description: Manufacturer Link; ComponentLink1URL: http://www.irf.com/; ComponentLink2Description: Datasheet; ComponentLink2URL: http://www.irf.com/product-info/datasheets/data/st280s.pdf
simulation model ST280S04P0V (SUBCKT)
pins: 1 G, 2 K, 3 K, 4 A
text: 2, 3

## ST280S06P0V
designator Q?
Phase Control Thyristor; Note: No PCB Footprint Available; Published: 8-Jun-2000; LatestRevisionDate: 17-Jul-2002; LatestRevisionNote: Re-released for DXP Platform.; DatasheetVersion: Jan-1994; PackageReference: TO-209AB; Publisher: Altium Limited; ComponentLink1Description: Manufacturer Link; ComponentLink1URL: http://www.irf.com/; ComponentLink2Description: Datasheet; ComponentLink2URL: http://www.irf.com/product-info/datasheets/data/st280s.pdf
simulation model ST280S06P0V (SUBCKT)
pins: 1 G, 2 K, 3 K, 4 A
text: 2, 3

## ST300C02C
designator Q?
Phase Control Thyristor; Note: No PCB Footprint Available; Published: 8-Jun-2000; LatestRevisionDate: 17-Jul-2002; LatestRevisionNote: Re-released for DXP Platform.; DatasheetVersion: Dec-1998; PackageReference: TO-200AB; Publisher: Altium Limited; ComponentLink1Description: Manufacturer Link; ComponentLink1URL: http://www.irf.com/
simulation model ST300C02C (SUBCKT)
pins: 1 A, 2 G, 3 K, 4 K
text: 3, 4

## ST300C04C0
designator Q?
Phase Control Thyristor; Note: No PCB Footprint Available; Published: 8-Jun-2000; LatestRevisionDate: 17-Jul-2002; LatestRevisionNote: Re-released for DXP Platform.; DatasheetVersion: Feb-1994; PackageReference: TO-200AB; Publisher: Altium Limited; ComponentLink1Description: Manufacturer Link; ComponentLink1URL: http://www.irf.com/; ComponentLink2Description: Datasheet; ComponentLink2URL: http://www.irf.com/product-info/datasheets/data/st300c-c.pdf
simulation model ST300C04C0 (SUBCKT)
pins: 1 A, 2 G, 3 K, 4 K
text: 3, 4

## ST300C04L0
designator Q?
Phase Control Thyristor; Note: No PCB Footprint Available; Published: 8-Jun-2000; LatestRevisionDate: 17-Jul-2002; LatestRevisionNote: Re-released for DXP Platform.; DatasheetVersion: Feb-1994; PackageReference: TO-200AC; Publisher: Altium Limited; ComponentLink1Description: Manufacturer Link; ComponentLink1URL: http://www.irf.com/; ComponentLink2Description: Datasheet; ComponentLink2URL: http://www.irf.com/product-info/datasheets/data/st300c-l.pdf
simulation model ST300C04L0 (SUBCKT)
pins: 1 A, 2 G, 3 K, 4 K
text: 3, 4

## ST300C06C
designator Q?
Phase Control Thyristor; Note: No PCB Footprint Available; Published: 8-Jun-2000; LatestRevisionDate: 17-Jul-2002; LatestRevisionNote: Re-released for DXP Platform.; DatasheetVersion: Dec-1989; PackageReference: TO-200AB; Publisher: Altium Limited; ComponentLink1Description: Manufacturer Link; ComponentLink1URL: http://www.irf.com/
simulation model ST300C06C (SUBCKT)
pins: 1 A, 2 G, 3 K, 4 K
text: 3, 4

## ST300C08C0
designator Q?
Phase Control Thyristor; Note: No PCB Footprint Available; Published: 8-Jun-2000; LatestRevisionDate: 17-Jul-2002; LatestRevisionNote: Re-released for DXP Platform.; DatasheetVersion: Feb-1994; PackageReference: TO-200AB; Publisher: Altium Limited; ComponentLink1Description: Manufacturer Link; ComponentLink1URL: http://www.irf.com/; ComponentLink2Description: Datasheet; ComponentLink2URL: http://www.irf.com/product-info/datasheets/data/st300c-c.pdf
simulation model ST300C08C0 (SUBCKT)
pins: 1 A, 2 G, 3 K, 4 K
text: 3, 4

## ST300C08L0
designator Q?
Phase Control Thyristor; Note: No PCB Footprint Available; Published: 8-Jun-2000; LatestRevisionDate: 17-Jul-2002; LatestRevisionNote: Re-released for DXP Platform.; DatasheetVersion: Feb-1994; PackageReference: TO-200AC; Publisher: Altium Limited; ComponentLink1Description: Manufacturer Link; ComponentLink1URL: http://www.irf.com/; ComponentLink2Description: Datasheet; ComponentLink2URL: http://www.irf.com/product-info/datasheets/data/st300c-l.pdf
simulation model ST300C08L0 (SUBCKT)
pins: 1 A, 2 G, 3 K, 4 K
text: 3, 4

## ST300C10C
designator Q?
Phase Control Thyristor; Note: No PCB Footprint Available; Published: 8-Jun-2000; LatestRevisionDate: 17-Jul-2002; LatestRevisionNote: Re-released for DXP Platform.; DatasheetVersion: Dec-1989; PackageReference: TO-200AB; Publisher: Altium Limited; ComponentLink1Description: Manufacturer Link; ComponentLink1URL: http://www.irf.com/
simulation model ST300C10C (SUBCKT)
pins: 1 A, 2 G, 3 K, 4 K
text: 3, 4

## ST300C12C0
designator Q?
Phase Control Thyristor; Note: No PCB Footprint Available; Published: 8-Jun-2000; LatestRevisionDate: 17-Jul-2002; LatestRevisionNote: Re-released for DXP Platform.; DatasheetVersion: Feb-1994; PackageReference: TO-200AB; Publisher: Altium Limited; ComponentLink1Description: Manufacturer Link; ComponentLink1URL: http://www.irf.com/; ComponentLink2Description: Datasheet; ComponentLink2URL: http://www.irf.com/product-info/datasheets/data/st300c-c.pdf
simulation model ST300C12C0 (SUBCKT)
pins: 1 A, 2 G, 3 K, 4 K
text: 3, 4